# Altium footprint library Passives-SMD_FUSE.PCBLIB: 10 footprints
Each footprint in its own frame and in the unit in brackets; x right, y up, seen from the top. Pads: shape width x height; smd on the part's side, far side on the other; paste and mask are expansions set on the pad; w line width, h text height; cw(c..) or ccw(c..) is an arc to the next point about the centre after c.
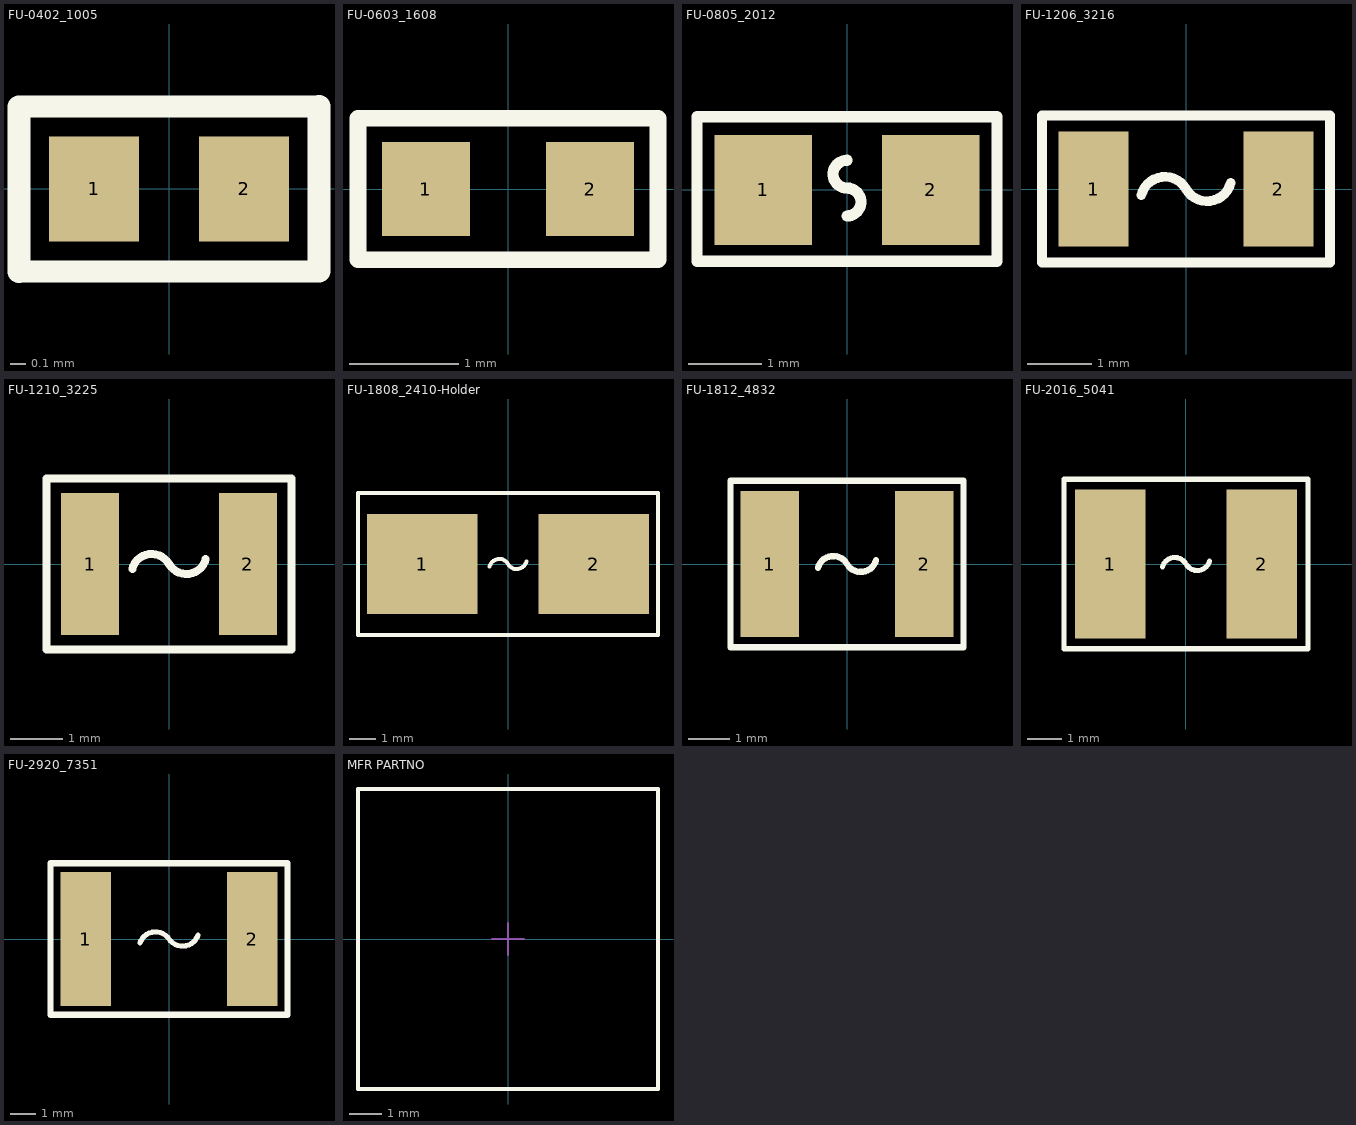
[diagram p0: the footprints below, top view; thin cyan lines are the x and y axes]

## FU-0402_1005 [mm] "0402贴片自恢复保险丝(PPTC)"
pads (2):
  rect 0.6x0.7 smd: 1(-0.5,0) 2(0.5,0)
Top Overlay:
  lines w0.15: -1,-0.55 1,-0.55 1,0.55 -1,0.55 -1,-0.55
3D body "FUSE0402-2+2.stp": height 0.36, standoff 0.03, extent -0.5,-0.25 0.5,0.25

## FU-0603_1608 [mm] "0603贴片自恢复保险丝(PPTC)"
pads (2):
  rect 0.806x0.864 smd: 1(-0.753,0) 2(0.753,0)
Top Overlay:
  lines w0.152: 1.374,-0.65 -1.375,-0.65 -1.375,0.65 1.375,0.65 1.375,-0.65
3D body "FUSE0603-2.stp": height 0.53, standoff 0, extent -0.825,-0.425 0.825,0.425

## FU-0805_2012 [mm] "0805贴片自恢复保险丝(PPTC)"
pads (2):
  rect 1.335x1.5 smd: 1(-1.142,0) 2(1.142,0)
Top Overlay:
  lines w0.152: 0,-0.356 ccw(c0,-0.166) 0,0.025 cw(c0,0.215) 0,0.406 ; -2.05,-0.975 -2.05,1 2.05,1 2.05,-0.975 -2.05,-0.975
3D body "FUSE0805-2.stp": height 0.8, standoff 0, extent -1.05,-0.7 1.05,0.7

## FU-1206_3216 [mm] "1206贴片自恢复保险丝(PPTC)"
pads (2):
  rect 1.1x1.8 smd: 1(-1.445,0) 2(1.445,0)
Top Overlay:
  lines w0.152: -0.698,-0.092 cw(c-0.33,-0.191) 0,0 ccw(c0.33,0.191) 0.698,0.092 ; -2.25,-1.15 2.25,-1.15 2.25,1.15 -2.25,1.15 -2.25,-1.15
3D body "FUSE1206-2.stp": height 0.61, standoff 0.01, extent -1.6,-0.85 1.6,0.85

## FU-1210_3225 [mm] "1210贴片自恢复保险丝(PPTC)"
pads (2):
  rect 1.1x2.7 smd: 1(-1.5,0) 2(1.5,0)
Top Overlay:
  lines w0.152: -0.698,-0.092 cw(c-0.33,-0.191) 0,0 ccw(c0.33,0.191) 0.698,0.092 ; -2.325,-1.625 -2.325,1.625 2.325,1.625 2.325,-1.625 -2.325,-1.625
3D body "FUSE1210-2.stp": height 0.62, standoff 0, extent -1.6,-1.3 1.6,1.3

## FU-1808_2410-Holder [mm] "1808/2410贴片保险丝座"
pads (2):
  rect 4.2x3.8 smd: 1(-3.25,0) 2(3.25,0)
Top Overlay:
  lines w0.152: -0.698,-0.092 cw(c-0.33,-0.191) 0,0 ccw(c0.33,0.191) 0.698,0.092 ; -5.7,-2.7 -5.7,2.7 5.7,2.7 5.7,-2.7 -5.7,-2.7
3D body "FUSE1808Z-2.stp": height 3.81, standoff 0, extent -4.865,-2.516 4.865,2.516

## FU-1812_4832 [mm] "1812贴片自恢复保险丝(PPTC)"
pads (2):
  rect 1.407x3.499 smd: 1(-1.853,0) 2(1.853,0)
Top Overlay:
  lines w0.152: -0.698,-0.092 cw(c-0.33,-0.191) 0,0 ccw(c0.33,0.191) 0.698,0.092 ; -2.8,-2 -2.8,2 2.8,2 2.8,-2 -2.8,-2
3D body "FUSE1812-2.stp": height 1.04, standoff 0, extent -2.25,-1.6 2.25,1.6

## FU-2016_5041 [mm] "2016贴片自恢复保险丝(PPTC)"
pads (2):
  rect 2.085x4.385 smd: 1(-2.232,0) 2(2.233,0)
Top Overlay:
  lines w0.152: -0.698,-0.092 cw(c-0.33,-0.191) 0,0 ccw(c0.33,0.191) 0.698,0.092 ; -3.6,-2.5 -3.6,2.5 3.6,2.5 3.6,-2.5 -3.6,-2.5
3D body "FUSE2016-2.stp": height 1.02, standoff 0.02, extent -2.722,-2.217 2.722,2.217

## FU-2920_7351 [mm] "2920贴片自恢复保险丝(PPTC)"
pads (2):
  rect 2x5.3 smd: 1(-3.3,0) 2(3.3,0)
Top Overlay:
  lines w0.203: -1.15,-0.156 cw(c-0.537,-0.362) 0,0 ccw(c0.537,0.362) 1.15,0.156
  lines w0.254: -4.7,-3 4.7,-3 4.7,3 -4.7,3 -4.7,-3
3D body "FUSE2920-2.stp": height 0.74, standoff 0, extent -4,-2.7 4,2.7

## MFR PARTNO [mm] "记得设置高度"
Top Overlay:
  lines w0.127: -4.7,-4.7 4.7,-4.7 4.7,4.7 -4.7,4.7 -4.7,-4.7
Top 元件外形:
  lines w0.127: -4.7,-4.7 -4.7,4.7 4.7,4.7 4.7,-4.7 -4.7,-4.7
Top 中心点:
  lines w0.051: -0.5,0 0.5,0 ; 0,-0.5 0,0.5